# Altium schematic symbol library WRL-13764.SchLib: 1 symbol
Pins are listed as number, name and electrical type; pins without a type are passive.

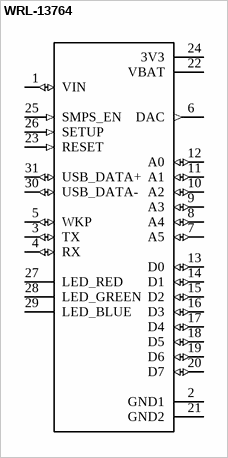
[diagram p0: symbol WRL-13764]

## WRL-13764
designator MODULE?  (value not drawn)
Particle Photon (No Headers); MF: SparkFun; Package: None; Availability: Unavailable; MP: WRL-13764; Price: 22.50 USD; Value: *
footprint SPARKFUN_WRL-13764
pins: 1 VIN (io), 2 GND1, 3 TX (io), 4 RX (io), 5 WKP (io), 6 DAC (out), 7 A5 (io), 8 A4 (io), 9 A3 (io), 10 A2 (io), 11 A1 (io), 12 A0 (io), 13 D0 (io), 14 D1 (io), 15 D2 (io), 16 D3 (io), 17 D4 (io), 18 D5 (io), 19 D6 (io), 20 D7 (io), 21 GND2, 22 VBAT (power), 23 RESET (in), 24 3V3 (power), 25 SMPS_EN (in), 26 SETUP (in), 27 LED_RED, 28 LED_GREEN, 29 LED_BLUE, 30 USB_DATA- (io), 31 USB_DATA+ (io)